# Altium schematic symbol library WS-DESU.SchLib: 2 symbols
Pins are listed as number, name and electrical type; pins without a type are passive.

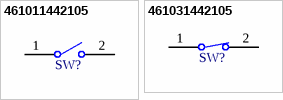
[diagram p0: symbols 461011442105 to 461031442105]

## 461011442105
designator SW?  (value not drawn)
WS-DESU SMT Side Push Detector Switch, 5.7 x 4mm, SPST-NO, 100mA, 12VDC; Manufacturer: Wurth Elektronik; Operation Force: 100g; ComponentLink1Description: Website Link; ComponentLink1URL: https://www.we-online.com/redexpert/article/461011442105?ad; ComponentLink2Description: Datasheet Link; ComponentLink2URL: https://www.we-online.com/redexpert/spec/461011442105?ad; Manufacturer Part Number: 461011442105; Category: Detector Switches; Match Code: WS-DESU; Mount: Surface Mount; Operating Temperature Max: 85°C; Operating Temperature Min: -40°C; Packaging: Tape and Reel; Length: 5.7mm; Width: 4mm; Height: 2mm; Circuit: SPST-NO; Contact Material: Copper Alloy; Contact Plating: Silver; Rated Current: 100mA; Rated Voltage: 12VDC; Terminal Material: Copper Alloy; Terminal Plating: Silver
footprint 4610x1442105
pins: 1, 2

## 461031442105
designator SW?  (value not drawn)
WS-DESU SMT Side Push Detector Switch, 5.7 x 4mm, SPST-NC, 100mA, 12VDC; Manufacturer: Wurth Elektronik; Operation Force: 100g; ComponentLink1Description: Website Link; ComponentLink1URL: https://www.we-online.com/redexpert/article/461031442105?ad; ComponentLink2Description: Datasheet Link; ComponentLink2URL: https://www.we-online.com/redexpert/spec/461031442105?ad; Manufacturer Part Number: 461031442105; Category: Detector Switches; Match Code: WS-DESU; Mount: Surface Mount; Operating Temperature Max: 85°C; Operating Temperature Min: -40°C; Packaging: Tape and Reel; Length: 5.7mm; Width: 4mm; Height: 2mm; Circuit: SPST-NC; Contact Material: Copper Alloy; Contact Plating: Silver; Rated Current: 100mA; Rated Voltage: 12VDC; Terminal Material: Copper Alloy; Terminal Plating: Silver
footprint 4610x1442105
pins: 1, 2